# Altium footprint library LibSTM.PcbLib: 17 footprints (part 1 of 2)
Each footprint in its own frame and in the unit in brackets; x right, y up, seen from the top. Pads: shape width x height; smd on the part's side, far side on the other; paste and mask are expansions set on the pad; w line width, h text height; cw(c..) or ccw(c..) is an arc to the next point about the centre after c.
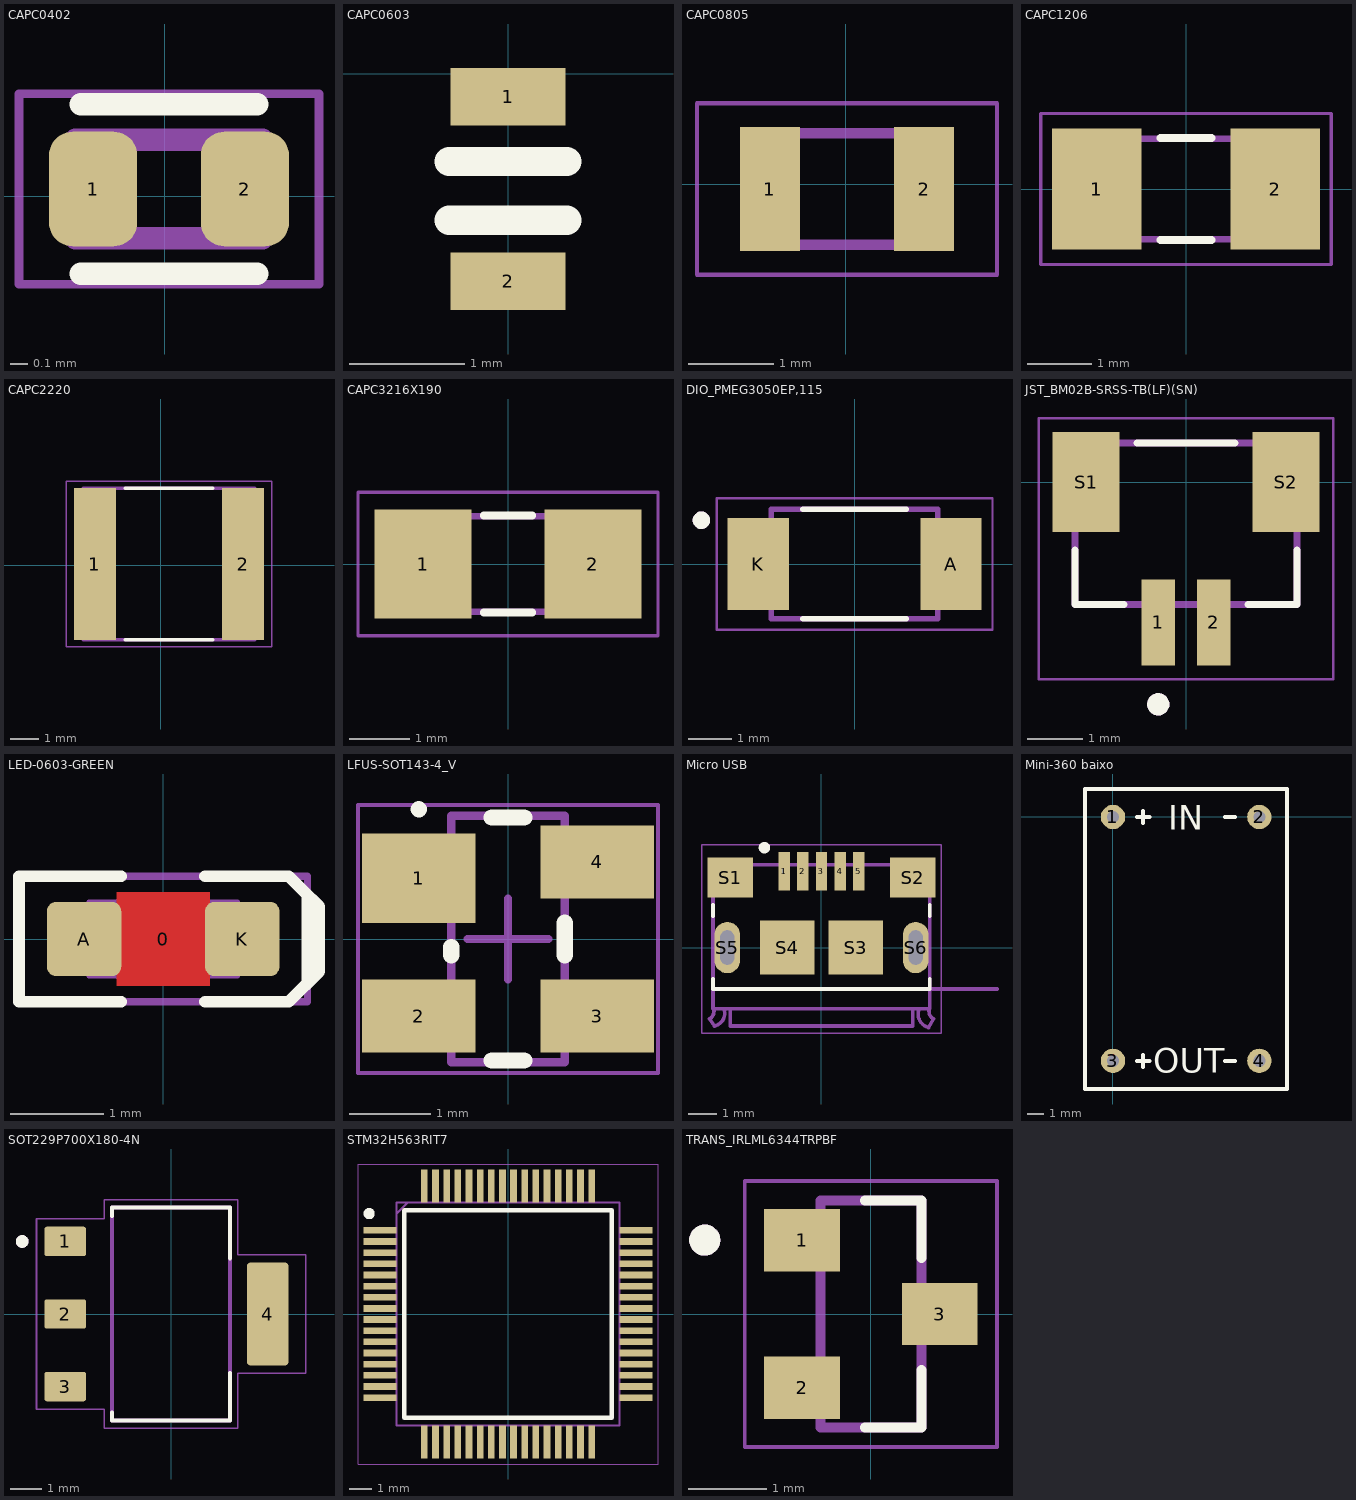
[diagram p0: the footprints below, top view; thin cyan lines are the x and y axes]

## CAPC0402 [mm]
pads (2):
  rrect53% 0.5x0.65 smd: 1(-0.407,0.041) 2(0.453,0.041)
Top Overlay:
  lines w0.127: -0.477,-0.439 0.523,-0.439 ; -0.477,0.521 0.523,0.521
Top Designator:
  text ".Designator" at -7.594,-0.467 h1.52
Mechanical 13:
  lines w0.127: -0.507,-0.239 0.553,-0.239 0.553,0.321 -0.507,0.321 -0.507,-0.239
Mechanical 15:
  lines w0.05: -0.827,-0.499 0.873,-0.499 0.873,0.581 -0.827,0.581 -0.827,-0.499
3D body "cap0402.STEP": height 0.55, standoff 0, extent -0.45,-0.225 0.55,0.275

## CAPC0603 [mm]
pads (2):
  rect 1x0.5 smd: 1(0,-0.2) 2(0,-1.8)
Top Overlay:
  lines w0.254: -0.508,-1.27 0.508,-1.27 ; -0.508,-0.762 0.508,-0.762
Top Designator:
  text ".Designator" at -7.618,-1.508 h1.52
3D body "CERAMIC0603.STEP": height 0.8, standoff -0.01, extent -0.45,-1.8 0.45,-0.2

## CAPC0805 [mm]
pads (2):
  rect 0.7x1.45 smd: 1(-0.883,-0.058) 2(0.917,-0.058)
Top Designator:
  text ".Designator" at -7.601,-0.566 h1.52
Mechanical 13:
  lines w0.127: -0.983,-0.708 -0.983,0.592 1.017,0.592 1.017,-0.708 -0.983,-0.708
Mechanical 15:
  lines w0.05: -1.733,-1.058 -1.733,0.942 1.767,0.942 1.767,-1.058 -1.733,-1.058
3D body "0805.2.STEP": height 0.94, standoff 0, extent -1.005,-0.65 1.005,0.6

## CAPC1206 [mm]
pads (2):
  rect 1.4x1.9 smd: 1(-1.4,0) 2(1.4,0)
Top Overlay:
  lines w0.127: -0.4,-0.8 0.4,-0.8 ; -0.4,0.8 0.4,0.8
Top Designator:
  text ".Designator" at -7.618,-0.508 h1.52
Mechanical 13:
  region: -0.952,-0.851 -1.702,-0.851 -1.702,0.849 -0.952,0.849
  region: 1.702,-0.849 0.952,-0.849 0.952,0.851 1.702,0.851
  lines w0.102: -0.965,-0.787 0.965,-0.787 ; -0.965,0.787 0.965,0.787
Mechanical 15:
  lines w0.051: -2.275,-1.183 2.275,-1.183 2.275,1.183 -2.275,1.183 -2.275,-1.183
3D body "CAP1206.STEP": height 1.6, standoff 0, extent -1.6,-0.9 1.6,0.88

## CAPC2220 [mm]
pads (2):
  rect 1.5x5.41 smd: 1(-2.347,0.046) 2(2.931,0.046)
Top Overlay:
  lines w0.127: -1.258,-2.654 1.842,-2.654 ; -1.258,2.746 1.842,2.746
Top Designator:
  text ".Designator" at -7.326,-0.462 h1.52
Mechanical 13:
  lines w0.127: -2.758,-2.654 -2.758,2.746 3.342,2.746 3.342,-2.654 -2.758,-2.654
Mechanical 15:
  lines w0.05: -3.362,-2.904 3.946,-2.904 3.946,2.996 -3.362,2.996 -3.362,-2.904
3D body "cap2220.STEP": height 3.3, standoff 0, extent -2.5,-2.475 3.2,2.525

## CAPC3216X190 [mm]
pads (2):
  rect 1.6x1.8 smd: 1(-1.4,0) 2(1.4,0)
Top Overlay:
  lines w0.127: -0.4,-0.8 0.4,-0.8 ; -0.4,0.8 0.4,0.8
Mechanical 13:
  region: 1.702,-0.849 0.952,-0.849 0.952,0.851 1.702,0.851
  region: -0.952,-0.851 -1.702,-0.851 -1.702,0.849 -0.952,0.849
  lines w0.102: -0.965,-0.787 0.965,-0.787 ; -0.965,0.787 0.965,0.787
Mechanical 15:
  lines w0.051: -2.473,-1.183 -2.473,1.183 2.473,1.183 2.473,-1.183 -2.473,-1.183
3D body "step_temp.STEP": height 1.5, standoff 0, extent -1.6,-0.8 1.6,0.8

## DIO_PMEG3050EP,115 [mm]
height 1.1
pads (2):
  rect 1.4x2.1 smd paste-0.1: A(2.2,0) K(-2.2,0)
Top Overlay:
  circle w0.2: c-3.5,1 r0.1
  lines w0.127: -1.18,-1.25 1.18,-1.25 ; -1.18,1.25 1.18,1.25
Mechanical 13:
  circle w0.2: c-3.5,1 r0.1
  lines w0.127: -1.9,-1.25 -1.9,1.25 1.9,1.25 1.9,-1.25 -1.9,-1.25
Mechanical 15:
  lines w0.05: -3.15,-1.5 -3.15,1.5 3.15,1.5 3.15,-1.5 -3.15,-1.5
3D body "step_temp.STEP": height 1.1, standoff 0, extent -2.35,-1.25 2.35,1.25

## JST_BM02B-SRSS-TB(LF)(SN) [mm]
height 6.3
pads (4):
  rect 0.6x1.55 smd: 1(-0.5,-2.525) 2(0.5,-2.525)
  rect 1.2x1.8 smd: S1(-1.8,0) S2(1.8,0)
Top Overlay:
  circle w0.2: c-0.5,-4 r0.1
  lines w0.127: -2,-1.22 -2,-2.2 -1.12,-2.2 ; -0.88,0.7 0.88,0.7 ; 1.12,-2.2 2,-2.2 2,-1.22
Mechanical 13:
  circle w0.2: c-0.5,-4 r0.1
  lines w0.127: -2,-2.2 2,-2.2 2,0.7 -2,0.7 -2,-2.2
Mechanical 15:
  lines w0.05: -2.65,-3.55 -2.65,1.15 2.65,1.15 2.65,-3.55 -2.65,-3.55
3D body "BM02B-SRSS-TB-LF--SN---3DModel-STEP-56544.STEP": height 4.25, standoff 0, extent -2,-2.9 2,0.7

## LED-0603-GREEN [mm]
height 0.8
pads (3):
  round 0.254 on Mech15: 0(0,0)
  rrect25% 0.8x0.8 smd: A(-0.85,0) K(0.85,0)
Top Layer:
  pour cut-out: -0.5,0.5 0.5,0.5 0.5,-0.5 -0.5,-0.5
Top Overlay:
  lines w0.127: -0.45,-0.675 -1.55,-0.675 -1.55,0.675 -0.45,0.675 ; 0.45,-0.675 1.35,-0.675 1.55,-0.475 1.55,0.475 1.35,0.675 0.45,0.675 ; 1.5,0.525 1.675,0.35 1.675,-0.35 1.525,-0.5
Top Designator:
  text ".Designator" at -7.555,-0.508 h1.52
Mechanical 13:
  lines w0.05: -0.6,-0.4 -0.6,0.399 0.6,0.4 0.6,-0.4 -0.6,-0.399 ; -0.505,-0.398 -0.505,0.398 ; -0.5,-0.4 -0.8,-0.4 -0.8,0.4 -0.5,0.4 ; 0.5,-0.4 0.8,-0.4 0.8,0.4 0.5,0.4 ; 0.505,-0.398 0.505,0.398 ; -0.599,-0.398 -0.599,0.398 0.599,0.398 0.599,-0.398 -0.599,-0.398
Mechanical 15:
  lines w0.076: -1.55,-0.675 1.55,-0.675 1.55,0.675 -1.55,0.675 -1.55,-0.675
3D body "LED 0603 APT1608 GREEN.STEP": height 0.75, standoff 0, extent -0.8,-0.4 0.8,0.4

## LFUS-SOT143-4_V [mm] "SOT143, 4-Leads, Body 3.04x1.4mm, Pitch 1.90mm"
height 1.22
pads (4):
  rect 1.4x1.1 smd: 1(-1.1,0.75)
  rect 1.4x0.9 smd: 2(-1.1,-0.95) 3(1.1,-0.95) 4(1.1,0.95)
Top Overlay:
  circle w0.1: c-1.1,1.6 r0.05
  lines w0.2: -0.7,-0.2 -0.7,-0.1 ; -0.2,-1.5 0.2,-1.5 ; -0.2,1.5 0.2,1.5 ; 0.7,-0.2 0.7,0.2
Mechanical 13:
  lines w0.1: -0.7,-1.52 0.7,-1.52 0.7,1.52 -0.7,1.52 -0.7,-1.52
Mechanical 15:
  lines w0.05: -1.85,-1.65 1.85,-1.65 1.85,1.65 -1.85,1.65 -1.85,-1.65
  lines w0.1: -0.5,0 0.5,0 ; 0,-0.5 0,0.5
3D body "SP0503BAHTG--3DModel-STEP-56544.STEP": height 1.22, standoff 0, extent -1.185,-1.46 1.185,1.46

## Micro USB [mm]
pads (13):
  rect 0.4x1.35 smd: 1(-1.3,2.675) 2(-0.65,2.675) 3(0,2.675) 4(0.65,2.675) 5(1.3,2.675)
  rect 1.6x1.4 smd: S1(-3.2,2.45) S2(3.2,2.45)
  rect 1.9x1.9 smd: S3(1.2,0) S4(-1.2,0)
  oval 0.9x1.8 hole 0.5 slot 1.2 at 90 deg: S5(-3.3,0) S6(3.3,0)
  round 0.5 hole 0.5 unplated: ""(-3.3,0) ""(3.3,0)
Top Overlay:
  circle w0.2: c-2,3.5 r0.1
  lines w0.127: -3.8,-1.45 3.8,-1.45 ; -3.8,-1.4 -3.8,-1.1 ; -3.8,1.1 -3.8,1.5 ; 3.8,-1.4 3.8,-1.1 ; 3.8,1.1 3.8,1.5
Top Designator:
  text ".Designator" at -5.951,-0.17 h1.52
Mechanical 13:
  lines w0.127: -3.93,-2.5 -3.75,-2.75 ; -3.93,-2.5 ccw(c-4.065,-2.235) -3.8,-2.1 ; -3.746,-2.749 ccw(c-3.85,-2.3) -3.401,-2.196 ; -3.2,-2.2 -3.2,-2.75 3.2,-2.75 3.2,-2.2 ; 3.401,-2.198 ccw(c3.875,-2.325) 3.748,-2.799 ; 3.75,-2.8 3.93,-2.5 ; 3.8,-2.1 ccw(c4.065,-2.235) 3.93,-2.5 ; 6.15,-1.45 3.8,-1.45 ; -3.8,-2.1 -3.8,2.9 3.8,2.9 3.8,-1.45 ; -3.8,-2.1 -3.8,-2.15 3.8,-2.15 3.8,-1.45
  text "PCB END" at 4.75,-1.3 h0.41
Mechanical 15:
  lines w0.05: -4.2,-3 4.2,-3 4.2,3.6 -4.2,3.6 -4.2,-3
3D body "10118193-0001LF--3DModel-STEP-533217.STEP": height 3.18, standoff -0.43, extent -3.928,-2.8 3.928,2.861

## Mini-360 baixo [mil]
pads (4):
  round 60 hole 30: 1(0,0) 2(360.24,0) 3(0,-600) 4(360.24,-600)
Top Overlay:
  lines w10: 59.06,-600 89.57,-600 ; 59.06,0 89.57,0 ; 73.82,-615.16 73.82,-585.63 ; 73.82,-14.76 73.82,14.76 ; 275.59,-600 300.2,-600 ; 275.59,0 300.2,0 ; -68.9,-669.29 -68.9,68.9 428.15,68.9 428.15,-669.29 -68.9,-669.29
  text "OUT" at 99.57,-629.76 h60
  text "IN" at 135.98,-31.34 h60
Top Designator:
  text ".Designator" at -120.28,-320.19 h60
3D body "mini360.step": height 177.35, standoff 11.81, extent -57.45,-656.38 414.99,55.93

## PCBComponent_1 [mm]

## SOT229P700X180-4N [mm]
pads (4):
  rrect15% 1.31x0.93 smd: 1(-3.345,2.29) 2(-3.345,0) 3(-3.345,-2.29)
  rrect15% 1.31x3.24 smd: 4(3.049,0)
Top Overlay:
  circle w0.2: c-4.703,2.29 r0.1
  lines w0.127: -1.86,-3.11 -1.86,-3.36 1.86,-3.36 1.86,-1.87 ; -1.86,3.1 -1.86,3.36 1.86,3.36 1.86,1.76
Top Designator:
  text ".Designator" at -7.932,-0.508 h1.52
Mechanical 13:
  circle w0.2: c-4.703,2.29 r0.1
  lines w0.127: -1.86,-3.36 -1.86,3.36 1.86,3.36 1.86,-3.36 -1.86,-3.36
Mechanical 15:
  lines w0.05: -4.25,-3.01 -2.11,-3.01 -2.11,-3.61 2.11,-3.61 2.11,-1.87 4.25,-1.87 4.25,1.87 2.11,1.87 2.11,3.61 -2.11,3.61 -2.11,3.01 -4.25,3.01 -4.25,-3.01
3D body "AMS1117.STEP": height 1.77, standoff -0.04, extent -3.624,-3.251 3.374,3.251

## STM32H563RIT7 [mm]
pads (64):
  rect 1.475x0.3 smd: 1(-5.738,3.75) 2(-5.738,3.25) 3(-5.738,2.75) 4(-5.738,2.25) 5(-5.738,1.75) 6(-5.738,1.25) 7(-5.738,0.75) 8(-5.738,0.25) 9(-5.738,-0.25) 10(-5.738,-0.75) 11(-5.738,-1.25) 12(-5.738,-1.75) 13(-5.738,-2.25) 14(-5.738,-2.75) 15(-5.738,-3.25) 16(-5.738,-3.75) 33(5.738,-3.75) 34(5.738,-3.25) 35(5.738,-2.75) 36(5.738,-2.25) 37(5.738,-1.75) 38(5.738,-1.25) 39(5.738,-0.75) 40(5.738,-0.25) 41(5.738,0.25) 42(5.738,0.75) 43(5.738,1.25) 44(5.738,1.75) 45(5.738,2.25) 46(5.738,2.75) 47(5.738,3.25) 48(5.738,3.75)
  rect 0.3x1.475 smd: 17(-3.75,-5.738) 18(-3.25,-5.738) 19(-2.75,-5.738) 20(-2.25,-5.738) 21(-1.75,-5.738) 22(-1.25,-5.738) 23(-0.75,-5.738) 24(-0.25,-5.738) 25(0.25,-5.738) 26(0.75,-5.738) 27(1.25,-5.738) 28(1.75,-5.738) 29(2.25,-5.738) 30(2.75,-5.738) 31(3.25,-5.738) 32(3.75,-5.738) 49(3.75,5.738) 50(3.25,5.738) 51(2.75,5.738) 52(2.25,5.738) 53(1.75,5.738) 54(1.25,5.738) 55(0.75,5.738) 56(0.25,5.738) 57(-0.25,5.738) 58(-0.75,5.738) 59(-1.25,5.738) 60(-1.75,5.738) 61(-2.25,5.738) 62(-2.75,5.738) 63(-3.25,5.738) 64(-3.75,5.738)
Top Overlay:
  circle w0.25: c-6.225,4.5 r0.125
  lines w0.2: -4.65,-4.65 -4.65,4.65 4.65,4.65 4.65,-4.65 -4.65,-4.65
Mechanical 13:
  lines w0.1: -5,4.5 -4.5,5 ; -5,-5 -5,5 5,5 5,-5 -5,-5
Mechanical 15:
  lines w0.05: -6.725,-6.725 -6.725,6.725 6.725,6.725 6.725,-6.725 -6.725,-6.725
3D body "STM32H563RIT7.stp": height 1.6, standoff 0, extent -6,-6 6,6

## TRANS_IRLML6344TRPBF [mm]
height 1.12
pads (3):
  rect 0.972x0.802 smd: 1(-0.885,0.95) 2(-0.885,-0.95) 3(0.885,0)
Top Overlay:
  circle w0.2: c-2.135,0.95 r0.1
  lines w0.127: -0.079,-1.46 0.65,-1.46 0.65,-0.721 ; -0.079,1.46 0.65,1.46 0.65,0.721
Mechanical 13:
  circle w0.2: c-2.135,0.95 r0.1
  lines w0.127: -0.65,-1.46 -0.65,1.46 0.65,1.46 0.65,-1.46 -0.65,-1.46
Mechanical 15:
  lines w0.05: -1.621,-1.71 -1.621,1.71 1.621,1.71 1.621,-1.71 -1.621,-1.71
3D body "step_temp.STEP": height 1.12, standoff 0, extent -1.255,-1.46 1.255,1.46